# Altium footprint library CSS4527.PcbLib: 1 footprints
Each footprint in its own frame and in the unit in brackets; x right, y up, seen from the top. Pads: shape width x height; smd on the part's side, far side on the other; paste and mask are expansions set on the pad; w line width, h text height; cw(c..) or ccw(c..) is an arc to the next point about the centre after c.
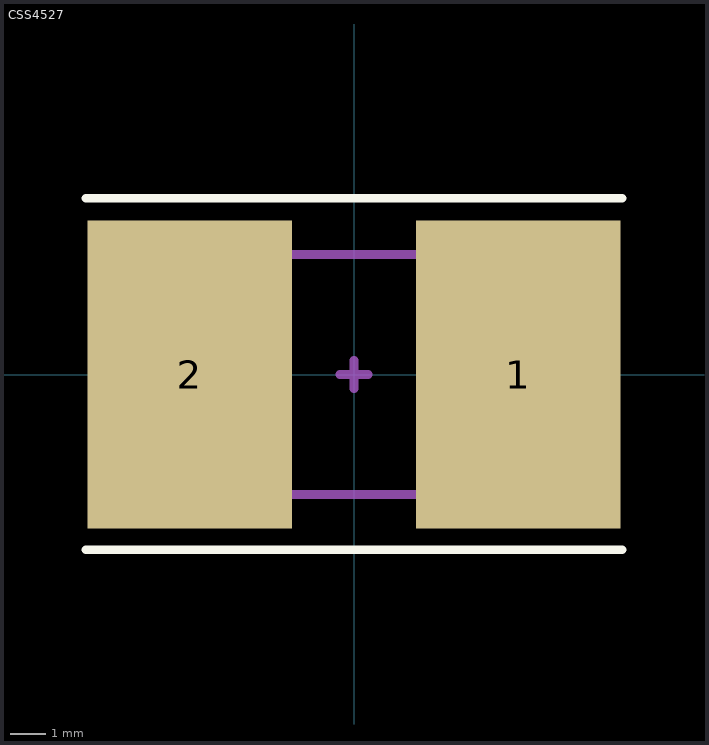
[diagram p0: the footprint, top view; thin cyan lines are the x and y axes]

## CSS4527 [mm]
pads (2):
  rect 5.8x8.74 smd mask+0.051: 1(4.655,0) 2(-4.655,0)
Top Overlay:
  lines w0.254: -7.6,5 7.6,5 ; -7.599,-4.97 7.601,-4.97
Mechanical 13:
  lines w0.254: -5.8,-3.4 5.8,-3.4 5.8,3.4 -5.8,3.4 -5.8,-3.4
Mechanical 15:
  lines w0.254: -0.4,0 0,0 ; 0,-0.4 0,0 ; 0,0.4 0,0 ; 0.4,0 0,0
3D body "CSS4527_L500-5L00_stp.stp": height 1.49, standoff -0.01, extent -5.715,-3.4 5.715,3.45